# Altium footprint library Matrix3.PcbLib: 16 footprints
Each footprint in its own frame and in the unit in brackets; x right, y up, seen from the top. Pads: shape width x height; smd on the part's side, far side on the other; paste and mask are expansions set on the pad; w line width, h text height; cw(c..) or ccw(c..) is an arc to the next point about the centre after c.
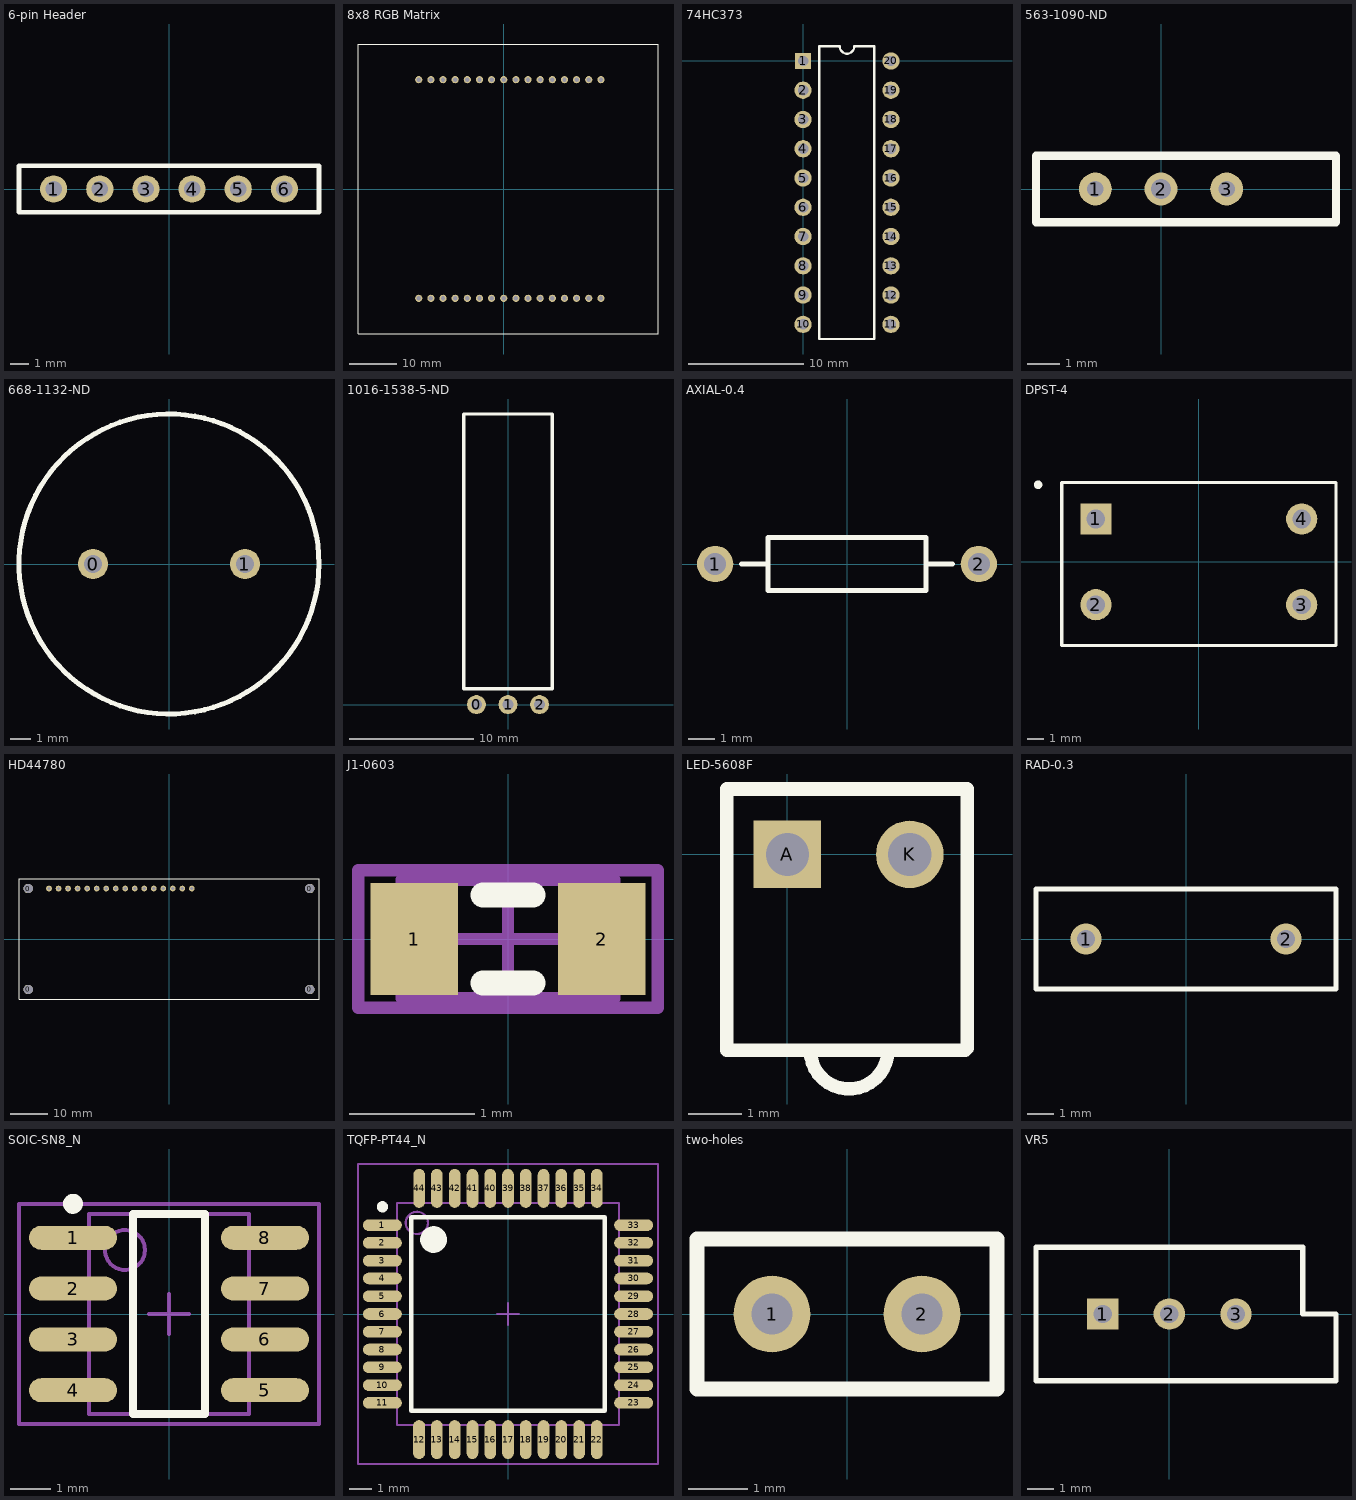
[diagram p0: the footprints below, top view; thin cyan lines are the x and y axes]

## 6-pin Header [mm]
pads (6):
  round 1.5 hole 0.9: 1(-6.35,0) 2(-3.81,0) 3(-1.27,0) 4(1.27,0) 5(3.81,0) 6(6.35,0)
Top Overlay:
  lines w0.254: -8.255,-1.27 8.255,-1.27 8.255,1.27 -8.255,1.27 -8.255,-1.27

## 8x8 RGB Matrix [mm]
pads (32):
  round 1.5 hole 0.9: 1(-17.78,-22.86) 2(-15.24,-22.86) 3(-12.7,-22.86) 4(-10.16,-22.86) 5(-7.62,-22.86) 6(-5.08,-22.86) 7(-2.54,-22.86) 8(0,-22.86) 9(2.54,-22.86) 10(5.08,-22.86) 11(7.62,-22.86) 12(10.16,-22.86) 13(12.7,-22.86) 14(15.24,-22.86) 15(17.78,-22.86) 16(20.32,-22.86) 17(20.32,22.86) 18(17.78,22.86) 19(15.24,22.86) 20(12.7,22.86) 21(10.16,22.86) 22(7.62,22.86) 23(5.08,22.86) 24(2.54,22.86) 25(0,22.86) 26(-2.54,22.86) 27(-5.08,22.86) 28(-7.62,22.86) 29(-10.16,22.86) 30(-12.7,22.86) 31(-15.24,22.86) 32(-17.78,22.86)
Top Overlay:
  lines w0.254: -30.48,-30.226 -30.48,-29.845 -30.48,29.718 -30.48,30.226 32.258,30.226 32.258,30.099 32.258,-29.972 32.258,-30.226 -30.48,-30.226

## 74HC373 [mm]
pads (20):
  rect 1.4x1.4 hole 0.9: 1(0,0)
  round 1.5 hole 0.9: 2(0,-2.54) 3(0,-5.08) 4(0,-7.62) 5(0,-10.16) 6(0,-12.7) 7(0,-15.24) 8(0,-17.78) 9(0,-20.32) 10(0,-22.86) 11(7.62,-22.86) 12(7.62,-20.32) 13(7.62,-17.78) 14(7.62,-15.24) 15(7.62,-12.7) 16(7.62,-10.16) 17(7.62,-7.62) 18(7.62,-5.08) 19(7.62,-2.54) 20(7.62,0)
Top Overlay:
  lines w0.2: 1.397,-24.13 1.397,1.27 ; 1.435,-24.13 6.185,-24.13 6.185,1.27 4.445,1.27 cw(c3.81,1.27) 3.175,1.27 1.435,1.27

## 563-1090-ND [mm]
pads (3):
  round 1 hole 0.5: 1(-2,0) 3(2,0)
  round 1 hole 0.6: 2(0,0)
Top Overlay:
  lines w0.254: -3.81,-1.016 -3.81,1.016 5.334,1.016 5.334,-1.016 -3.81,-1.016

## 668-1132-ND [mm]
pads (2):
  round 1.524 hole 0.9: 0(-3.8,0) 1(3.8,0)
Top Overlay:
  circle w0.254: c0,0 r7.5

## 1016-1538-5-ND [mil]
pads (3):
  round 60 hole 35.43: 0(-100,0) 1(0,0) 2(100,0)
Top Overlay:
  lines w10: -140,50 -140,920 140,920 140,50 -140,50

## AXIAL-0.4 [mm] "Axial Device, Thru-Hole; 2 Leads; 0.4 in Pin Spacing"
height 2.032
pads (2):
  round 1.4 hole 0.85: 1(-5.08,0) 2(5.08,0)
Top Overlay:
  lines w0.2: -4.064,0 -3.048,0 ; 3.048,0 4.064,0 ; -3.048,-1.016 -3.048,1.016 3.048,1.016 3.048,-1.016 -3.048,-1.016

## DPST-4 [mm] "Switch; 4 Leads"
pads (4):
  rect 1.85x1.85 hole 1.1: 1(-6.096,2.54)
  round 1.85 hole 1.1: 2(-6.096,-2.54) 3(6.096,-2.54) 4(6.096,2.54)
Top Overlay:
  circle w0.25: c-9.523,4.572 r0.125
  lines w0.2: -8.128,-4.953 -8.128,4.699 8.128,4.699 8.128,-4.953 -8.128,-4.953

## HD44780 [mm]
pads (20):
  round 2.5 hole 2.5: 0(-37.55,-13.46) 0(-37.55,13.46) 0(37.55,-13.46) 0(37.55,13.46)
  round 1.524 hole 0.9: 1(-32,13.46) 2(-29.46,13.46) 3(-26.92,13.46) 4(-24.38,13.46) 5(-21.84,13.46) 6(-19.3,13.46) 7(-16.76,13.46) 8(-14.22,13.46) 9(-11.68,13.46) 10(-9.14,13.46) 11(-6.6,13.46) 12(-4.06,13.46) 13(-1.52,13.46) 14(1.02,13.46) 15(3.56,13.46) 16(6.1,13.46)
Top Overlay:
  lines w0.254: -40,-16 -40,16 40,16 40,-16 -40,-16

## J1-0603 [mm] "Chip Resistor, Body 1.6x0.8mm, IPC High Density"
height 0.9
pads (2):
  rect 0.7x0.9 smd: 1(-0.75,0) 2(0.75,0)
Top Overlay:
  lines w0.2: -0.2,-0.35 0.2,-0.35 ; -0.2,0.35 0.2,0.35
Mechanical 13:
  lines w0.1: -0.85,-0.475 -0.85,0.475 0.85,0.475 0.85,-0.475 -0.85,-0.475
Mechanical 15:
  lines w0.1: -0.475,0 0.475,0 ; 0,-0.475 0,0.475 ; -1.2,-0.55 -1.2,0.55 1.2,0.55 1.2,-0.55 -1.2,-0.55
3D body: height 0.9, standoff 0, extent -0.85,-0.475 0.85,0.475

## LED-5608F [mil]
pads (2):
  rect 50x50 hole 32: A(0,0)
  round 50 hole 32: K(90.55,0)
Top Overlay:
  lines w10: 16.93,-144.88 ccw(c45.67,-144.88) 74.41,-144.88 ; 131.5,-144.88 -44.88,-144.88 -44.88,-79.92 -44.88,48.43 133.07,48.43 ; 133.07,-143.31 133.07,-79.13 133.07,48.03

## RAD-0.3 [mm] "Radial Cap, Thru-Hole; 2 Leads; 0.3 in Pin Spacing"
height 6
pads (2):
  round 1.2 hole 0.7: 1(-3.81,0) 2(3.81,0)
Top Overlay:
  lines w0.2: -5.715,-1.905 5.715,-1.905 5.715,1.905 -5.715,1.905 -5.715,-1.905

## SOIC-SN8_N [mm] "SOIC, 8-Leads, Body 4.9x3.8mm, Pitch 1.27mm, IPC Medium Density"
height 1.75
pads (8):
  oval 2.2x0.6 smd: 1(-2.4,1.905) 2(-2.4,0.635) 3(-2.4,-0.635) 4(-2.4,-1.905) 5(2.4,-1.905) 6(2.4,-0.635) 7(2.4,0.635) 8(2.4,1.905)
Top Overlay:
  circle w0.25: c-2.4,2.755 r0.125
  lines w0.2: -0.9,-2.5 -0.9,2.5 0.9,2.5 0.9,-2.5 -0.9,-2.5
Mechanical 13:
  circle w0.1: c-1.1,1.6 r0.5
  lines w0.1: -2,-2.5 -2,2.5 2,2.5 2,-2.5 -2,-2.5
Mechanical 15:
  lines w0.1: -0.5,0 0.5,0 ; 0,-0.5 0,0.5 ; -3.75,-2.75 -3.75,2.75 3.75,2.75 3.75,-2.75 -3.75,-2.75
3D body: height 1.75, standoff 0, extent -2,-2.5 2,2.5

## TQFP-PT44_N [mm] "Thin QFP, 44-Leads, Body 10x10mm, Pitch 0.8mm, IPC Medium Density"
height 1.2
pads (44):
  oval 1.75x0.525 smd: 1(-5.65,4) 2(-5.65,3.2) 3(-5.65,2.4) 4(-5.65,1.6) 5(-5.65,0.8) 6(-5.65,0) 7(-5.65,-0.8) 8(-5.65,-1.6) 9(-5.65,-2.4) 10(-5.65,-3.2) 11(-5.65,-4) 23(5.65,-4) 24(5.65,-3.2) 25(5.65,-2.4) 26(5.65,-1.6) 27(5.65,-0.8) 28(5.65,0) 29(5.65,0.8) 30(5.65,1.6) 31(5.65,2.4) 32(5.65,3.2) 33(5.65,4)
  oval 0.55x1.75 smd: 12(-4,-5.65)
  oval 0.525x1.75 smd: 13(-3.2,-5.65) 14(-2.4,-5.65) 15(-1.6,-5.65) 16(-0.8,-5.65) 17(0,-5.65) 18(0.8,-5.65) 19(1.6,-5.65) 20(2.4,-5.65) 21(3.2,-5.65) 22(4,-5.65) 34(4,5.65) 35(3.2,5.65) 36(2.4,5.65) 37(1.6,5.65) 38(0.8,5.65) 39(0,5.65) 40(-0.8,5.65) 41(-1.6,5.65) 42(-2.4,5.65) 43(-3.2,5.65) 44(-4,5.65)
Top Overlay:
  circle w0.6: c-3.35,3.35 r0.3
  circle w0.25: c-5.65,4.825 r0.125
  lines w0.2: -4.35,-4.35 4.35,-4.35 4.35,4.35 -4.35,4.35 -4.35,-4.35
Mechanical 13:
  circle w0.1: c-4.1,4.1 r0.5
  lines w0.1: -5,-5 5,-5 5,5 -5,5 -5,-5
Mechanical 15:
  lines w0.1: -0.5,0 0.5,0 ; 0,-0.5 0,0.5 ; -6.75,-6.75 6.75,-6.75 6.75,6.75 -6.75,6.75 -6.75,-6.75
3D body: height 1.2, standoff 0, extent -5,-5 5,5

## two-holes [mm]
pads (2):
  round 1.3 hole 0.7: 1(-1.27,0) 2(1.27,0)
Top Overlay:
  lines w0.254: -2.54,-1.27 2.54,-1.27 2.54,1.27 -2.54,1.27 -2.54,-1.27

## VR5 [mm] "Thru-Hole; 3 Leads"
pads (3):
  rect 1.2x1.2 hole 0.7: 1(-2.54,0)
  round 1.2 hole 0.7: 2(0,0) 3(2.54,0)
Top Overlay:
  lines w0.2: -5.08,-2.54 6.35,-2.54 6.35,0 5.08,0 5.08,2.54 -5.08,2.54 -5.08,-2.54